# Altium integrated library LM6142AIM.IntLib: 1 symbol
Pins are listed as number, name and electrical type; pins without a type are passive.

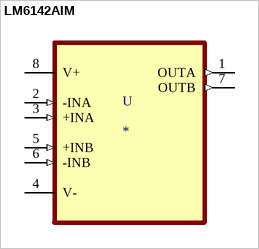
[diagram p0: symbol LM6142AIM]

## LM6142AIM
designator U
General Purpose Amplifier 2 Circuit Rail-to-Rail 8-SOIC; MP: LM6142AIM; MF: Texas Instruments; Package: SOIC-8 Texas Instruments; Availability: Unavailable; Value: *; SnapEDA_Link: https://www.snapeda.com/parts/LM6142AIM/Texas%20Instruments/view-part/18000/?ref=snap; Price: None
footprint SOIC127P600X175-8N
pins: 1 OUTA (out), 2 -INA (in), 3 +INA (in), 4 V- (power), 5 +INB (in), 6 -INB (in), 7 OUTB (out), 8 V+ (power)